# EAGLE library part LEVEL_SHIFTER_2CH (library MIA_LIBRARY-2-2)
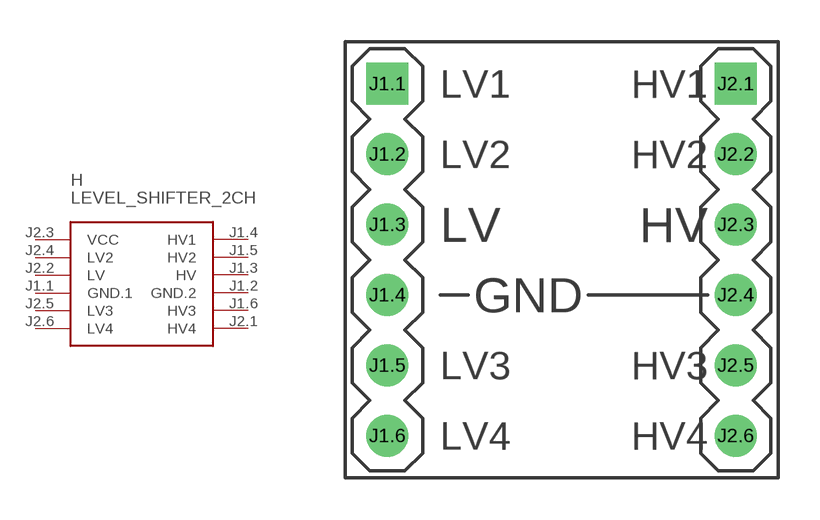
[diagram p67: symbol with the pads of LEVEL-SHIFTER-2CH; footprint LEVEL-SHIFTER-2CH]

Designator prefix H

## LEVEL_SHIFTER_2CH  [LEVEL-SHIFTER-2CH]
J1.1  GND.1  pwr
J1.2  GND.2  pwr
J1.3  HV  pwr
J1.4  HV1
J1.5  HV2
J1.6  HV3
J2.1  HV4
J2.2  LV  pwr
J2.3  VCC
J2.4  LV2
J2.5  LV3
J2.6  LV4

## Footprint LEVEL-SHIFTER-2CH (pad centres in mm)
drill 1 square: J1.1 1.58,14.28; J2.1 14.14,14.28
drill 1: J1.2 1.58,11.74; J1.3 1.58,9.2; J1.4 1.58,6.66; J1.5 1.58,4.12; J1.6 1.58,1.58; J2.2 14.14,11.74; J2.3 14.14,9.2; J2.4 14.14,6.66; J2.5 14.14,4.12; J2.6 14.14,1.58